# EAGLE library part MSPS003F4SPW20R (library MSPS003F4SPW20R)
Core Arm 32-bit Cortex-M0+ CPU, frequency up to 24MHz Operating characteristics Extended temperature: 40C to 125C Wide supply voltage range: 1.62V to 3.6V Memories Up to 16KB of flash 1KB of SRAM High-performance analog peripherals One analog-to-digital converter (ADC) with up to 10 total external channels, 1.7Msps at 10 bit or 1.5Msps at 12 bit with VDD as the voltage reference Configurable 1.4V or 2.5V internal ADC voltage reference (VREF) Integrated temperature Source: Datasheet <https://www.ti.com/lit/gpn/mspm0c1104>
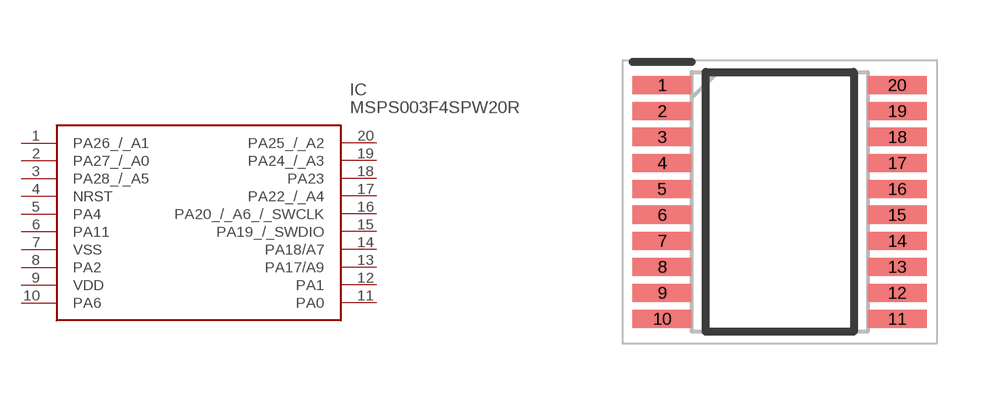
[diagram p0: symbol with the pads of SOP65P640X120-20N; footprint SOP65P640X120-20N]

Designator prefix IC

## MSPS003F4SPW20R (Description: Core Arm 32-bit Cortex-M0+ CPU, frequency up to 24MHz Operating characteristics Extended temperature: 40C to 125C Wide supply voltage range: 1.62V to 3.6V Memories Up to 16KB of flash 1KB of SRAM High-performance analog peripherals One analog-to-digital converter (ADC) with up to 10 total external channels, 1.7Msps at 10 bit or 1.5Msps at 12 bit with VDD as the voltage reference Configurable 1.4V or 2.5V internal ADC voltage reference (VREF) Integrated temperature; Height: 1.2mm; Manufacturer_Name: Texas Instruments; Manufacturer_Part_Number: MSPS003F4SPW20R; Mouser_Part_Number: 595-MSPS003F4SPW20R; Mouser_Price-Stock: https://www.mouser.co.uk/ProductDetail/Texas-Instruments/MSPS003F4SPW20R?qs=IKkN%2F947nfB2%252B17BcsFJOQ%3D%3D)  [SOP65P640X120-20N]
1  PA26_/_A1
2  PA27_/_A0
3  PA28_/_A5
4  NRST
5  PA4
6  PA11
7  VSS
8  PA2
9  VDD
10  PA6
11  PA0
12  PA1
13  PA17/A9
14  PA18/A7
15  PA19_/_SWDIO
16  PA20_/_A6_/_SWCLK
17  PA22_/_A4
18  PA23
19  PA24_/_A3
20  PA25_/_A2

## Footprint SOP65P640X120-20N (pad centres in mm)
PW0020A
smd 1.475 x 0.45: 1 -2.938,2.925; 2 -2.938,2.275; 3 -2.938,1.625; 4 -2.938,0.975; 5 -2.938,0.325; 6 -2.938,-0.325; 7 -2.938,-0.975; 8 -2.938,-1.625; 9 -2.938,-2.275; 10 -2.938,-2.925; 11 2.938,-2.925; 12 2.938,-2.275; 13 2.938,-1.625; 14 2.938,-0.975; 15 2.938,-0.325; 16 2.938,0.325; 17 2.938,0.975; 18 2.938,1.625; 19 2.938,2.275; 20 2.938,2.925